# Altium footprint library PCB_Terminal_Block_Pcb.PcbLib: 27 footprints (part 1 of 2)
Each footprint in its own frame and in the unit in brackets; x right, y up, seen from the top. Pads: shape width x height; smd on the part's side, far side on the other; paste and mask are expansions set on the pad; w line width, h text height; cw(c..) or ccw(c..) is an arc to the next point about the centre after c.
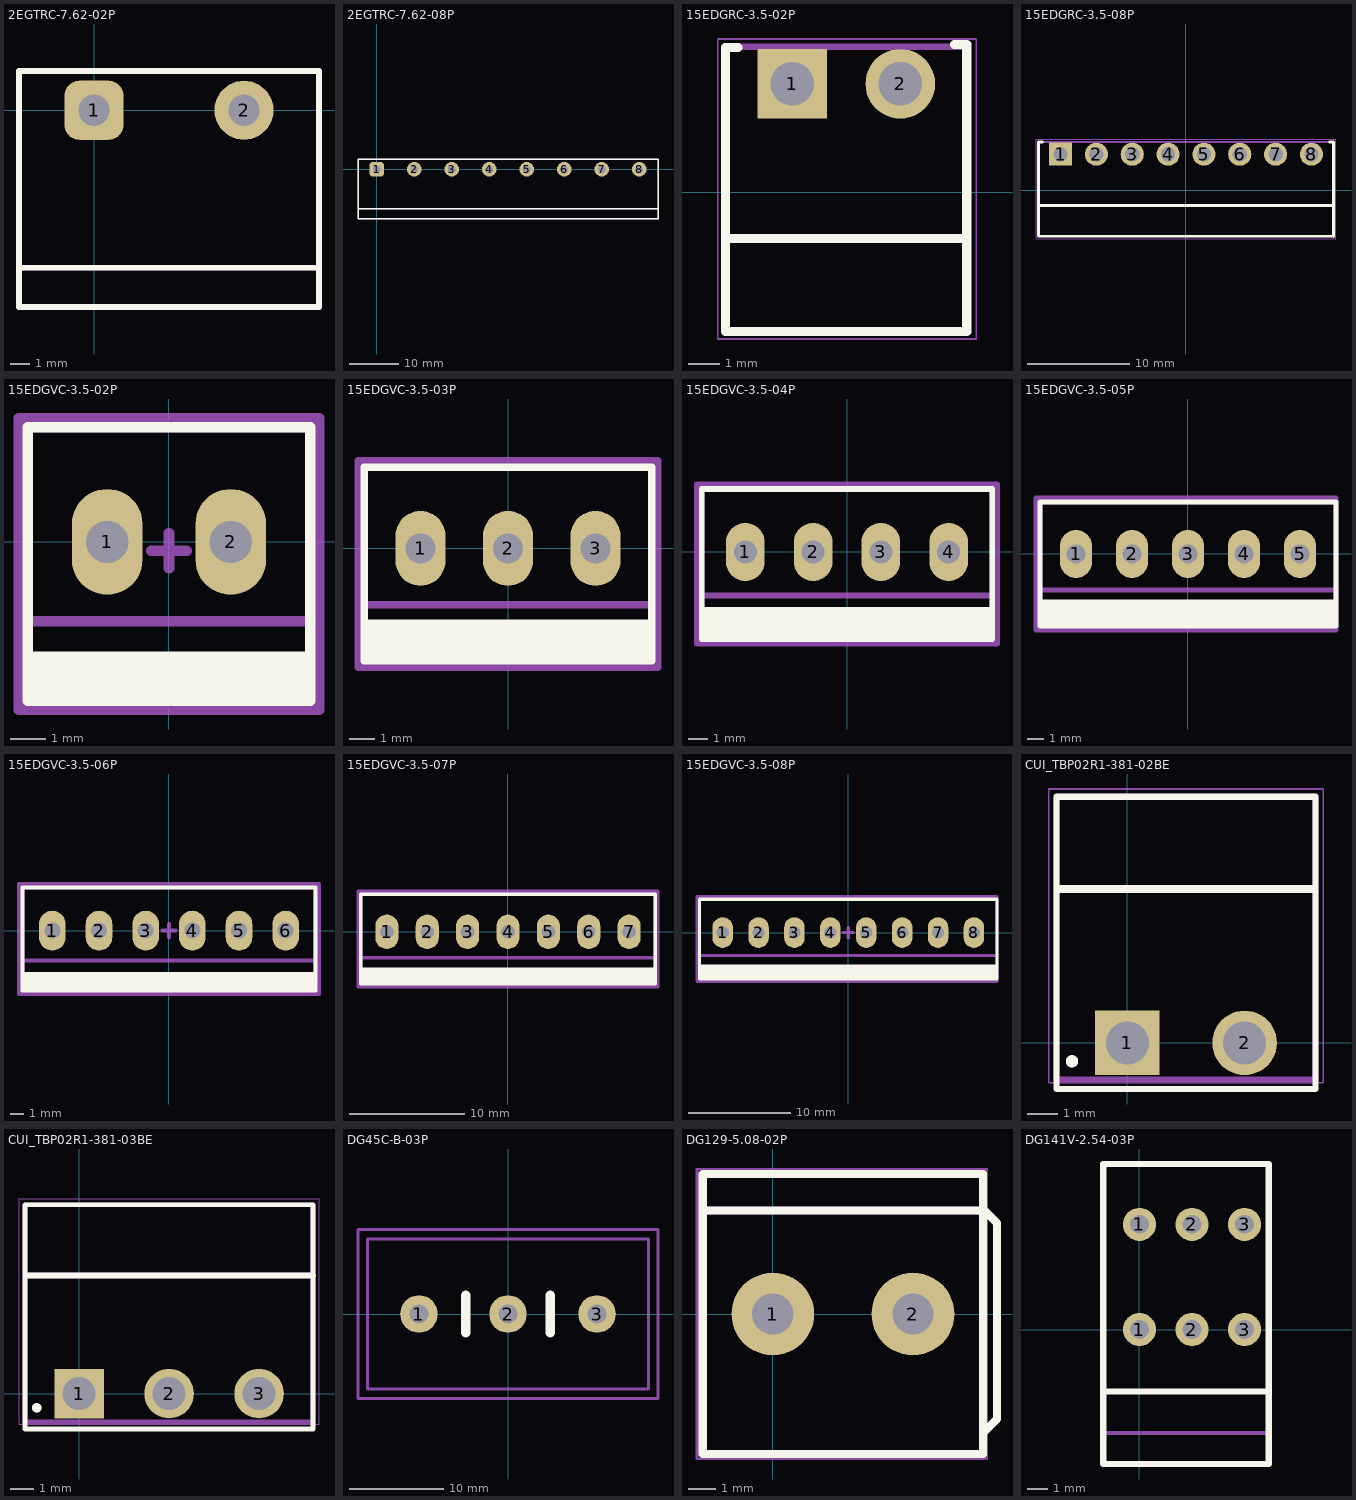
[diagram p0: the footprints below, top view; thin cyan lines are the x and y axes]

## 2EGTRC-7.62-02P [mm]
pads (2):
  rrect50% 3x3 hole 1.6: 1(0,0)
  round 3 hole 1.6: 2(7.62,0)
Top Overlay:
  lines w0.3: -3.81,-8 11.4,-8 ; -3.81,2 -3.81,-10 11.43,-10 11.43,2 -3.8,2
Mechanical 13:
  lines w0.3: -3.81,-8 11.4,-8 ; -3.81,2 -3.81,-10 11.43,-10 11.43,2 -3.8,2
  text ".designator" at -2.677,-7.422 h1.5
3D body "7.62-2P_right_angle.stp": height 8.51, standoff -3.99, extent -3.82,-10 11.42,2

## 2EGTRC-7.62-08P [mm]
pads (8):
  rrect50% 3x3 hole 1.6: 1(0,0)
  round 3 hole 1.6: 2(7.62,0) 3(15.24,0) 4(22.86,0) 5(30.48,0) 6(38.1,0) 7(45.72,0) 8(53.34,0)
Top Overlay:
  lines w0.3: -3.81,-8 57.15,-8 ; -3.81,2 -3.81,-10 57.15,-10 57.15,2 -3.8,2
Mechanical 13:
  lines w0.3: -3.81,-8 57.15,-8 ; -3.81,2 -3.81,-10 57.15,-10 57.15,2 -3.8,2
  text ".designator" at -2.776,-7.321 h1.5
3D body "terminal_blocks_a-tb762-oq08ch.stp": height 8.51, standoff -3.99, extent -3.756,-9.968 57.204,2.032

## 15EDGRC-3.5-02P [mm]
pads (2):
  rect 2.25x2.25 hole 1.4: 1(-12.25,3.5)
  round 2.25 hole 1.4: 2(-8.75,3.5)
Top Overlay:
  lines w0.3: -14.4,-1.5 -6.6,-1.5 ; -14,4.675 -14.4,4.675 -14.4,-4.5 -6.6,-4.507 ; -7,4.775 -6.6,4.775 -6.6,-4.425
Mechanical 13:
  lines w0.2: -14.45,-4.5 -6.6,-4.5 -6.6,4.7 -14.45,4.7 -14.45,-4.5
  text ".designator" at -13.817,-4.124 h1.5
Mechanical 15:
  lines w0.05: -14.65,-4.75 -14.65,4.95 -6.3,4.95 -6.3,-4.75 -14.65,-4.75
3D body "15EDGRC-3_5-02P.step": height 7.2, standoff -3.4, extent -14.4,-4.5 -6.6,4.7

## 15EDGRC-3.5-08P [mm]
pads (8):
  rect 2.25x2.25 hole 1.4: 1(-12.25,3.5)
  round 2.25 hole 1.4: 2(-8.75,3.5) 3(-5.25,3.5) 4(-1.75,3.5) 5(1.75,3.5) 6(5.25,3.5) 7(8.75,3.5) 8(12.25,3.5)
Top Overlay:
  lines w0.3: -14.4,-1.5 14.4,-1.5 ; -14,4.675 -14.4,4.675 -14.4,-4.5 14.4,-4.525 14.4,4.675 14,4.675
Mechanical 13:
  lines w0.2: -14.45,-4.5 -14.45,4.7 14.35,4.7 14.35,-4.5 -14.45,-4.5
  text ".designator" at -14.027,-4.322 h1.5
Mechanical 15:
  lines w0.05: -14.65,-4.75 14.65,-4.75 14.65,4.95 -14.65,4.95 -14.65,-4.75
3D body "15EDGRC-3.5-08P-14-00A.stp": height 7, standoff -3.4, extent -14.4,-4.5 14.4,4.7

## 15EDGVC-3.5-02P [mm]
pads (2):
  oval 2x3 hole 1.2 unplated: 1(-1.75,0) 2(1.75,0)
Top Overlay:
  rectangle: -4,-4.5 4,-3.25
  lines w0.3: -4,-3.25 4,-3.25 ; -4,-4.5 4,-4.5 4,0 4,3.25 1.5,3.25 -4,3.25 -4,0 -4,-4.5
Mechanical 13:
  lines w0.3: -4,-2.25 4,-2.25 ; -4,-4.5 4,-4.5 4,0 4,3.25 1.5,3.25 -4,3.25 -4,0 -4,-4.5
Mechanical 15:
  lines w0.3: -0.5,-0.25 0.5,-0.25 ; 0,-0.75 0,0.25 ; -4.25,-4.75 -4.25,3.5 4.25,3.5 4.25,-4.75 -4.25,-4.75
3D body "15EDGVC-3.5-02P-14-00A(H).stp": height 9.21, standoff -3.39, extent -3.9,-4.24 3.9,3

## 15EDGVC-3.5-03P [mm]
pads (3):
  oval 2x3 hole 1.2 unplated: 1(-3.5,0) 2(0,0) 3(3.5,0)
Top Overlay:
  rectangle: -5.75,-4.5 5.75,-3
  lines w0.3: -5.75,-3 5.75,-3 ; -5.75,-4.5 2.25,-4.5 5.75,-4.5 5.75,3.25 2.25,3.25 -0.25,3.25 -5.75,3.25 -5.75,0 -5.75,-4.5
Mechanical 13:
  lines w0.3: -5.75,-2.25 2.25,-2.25 5.75,-2.25 ; -5.75,-4.5 2.25,-4.5 5.75,-4.5 5.75,3.25 2.25,3.25 -0.25,3.25 -5.75,3.25 -5.75,0 -5.75,-4.5
Mechanical 15:
  lines w0.3: -6,-4.75 -6,3.5 6,3.5 6,-4.75 -6,-4.75
3D body "15EDGVC-3.5-03P-14-00A(H).stp": height 9.21, standoff -3.39, extent -5.65,-4.25 5.65,2.99

## 15EDGVC-3.5-04P [mm]
pads (4):
  oval 2x3 hole 1.2 unplated: 1(-5.25,0) 2(-1.75,0) 3(1.75,0) 4(5.25,0)
Top Overlay:
  rectangle: -7.5,-4.5 7.5,-3
  lines w0.3: -7.5,-3 7.5,-3 ; -7.5,-4.5 0.5,-4.5 7.5,-4.5 7.5,3.25 0.5,3.25 -2,3.25 -7.5,3.25 -7.5,0 -7.5,-4.5
Mechanical 13:
  lines w0.3: -7.5,-2.25 0.5,-2.25 7.5,-2.25 ; -7.5,-4.5 0.5,-4.5 7.5,-4.5 7.5,3.25 0.5,3.25 -2,3.25 -7.5,3.25 -7.5,0 -7.5,-4.5
Mechanical 15:
  lines w0.3: -7.75,-4.75 -7.75,3.5 7.75,3.5 7.75,-4.75 -7.75,-4.75
3D body "15EDGVC-3.5-04P-14-00A(H).stp": height 9.21, standoff -3.39, extent -7.4,-4.24 7.4,3

## 15EDGVC-3.5-05P [mm]
pads (5):
  oval 2x3 hole 1.2 unplated: 1(-7,0) 2(-3.5,0) 3(0,0) 4(3.5,0) 5(7,0)
Top Overlay:
  rectangle: -9.25,-4.5 9.25,-3
  lines w0.3: -9.25,-3 9.25,-3 ; -9.25,-4.5 -9.25,0 -9.25,3.25 -3.75,3.25 -1.25,3.25 9.25,3.25 9.25,-4.5 -1.25,-4.5 -9.25,-4.5
Mechanical 13:
  lines w0.3: -9.25,-2.25 -1.25,-2.25 9.25,-2.25 ; -9.25,-4.5 -9.25,0 -9.25,3.25 -3.75,3.25 -1.25,3.25 9.25,3.25 9.25,-4.5 -1.25,-4.5 -9.25,-4.5
Mechanical 15:
  lines w0.3: -0.5,0 0.5,0 ; 0,-0.5 0,0.5 ; -9.5,-4.75 9.25,-4.75 9.25,3.5 -9.5,3.5 -9.5,-4.75
3D body "15EDGVC-3.5-05P-14-00A(H).stp": height 9.21, standoff -3.39, extent -9.15,-4.25 9.15,2.99

## 15EDGVC-3.5-06P [mm]
pads (6):
  oval 2x3 hole 1.2 unplated: 1(-8.75,0) 2(-5.25,0) 3(-1.75,0) 4(1.75,0) 5(5.25,0) 6(8.75,0)
Top Overlay:
  rectangle: -11,-4.5 11,-3.25
  lines w0.3: -11,-3.25 11,-3.25 ; -11,-4.5 -11,0 -11,3.25 -5.5,3.25 -3,3.25 11,3.25 11,-4.5 -3,-4.5 -11,-4.5
Mechanical 13:
  lines w0.3: -11,-2.25 -3,-2.25 11,-2.25 ; -11,-4.5 -11,0 -11,3.25 -5.5,3.25 -3,3.25 11,3.25 11,-4.5 -3,-4.5 -11,-4.5
Mechanical 15:
  lines w0.3: -0.5,0 0.5,0 ; 0,-0.5 0,0.5 ; -11.25,-4.75 11.25,-4.75 11.25,3.5 -11.25,3.5 -11.25,-4.75
3D body "15EDGVC-3.5-06P-14-00A(H).stp": height 9.21, standoff -3.39, extent -10.9,-4.24 10.9,3

## 15EDGVC-3.5-07P [mm]
pads (7):
  oval 2x3 hole 1.2 unplated: 1(-10.5,0) 2(-7,0) 3(-3.5,0) 4(0,0) 5(3.5,0) 6(7,0) 7(10.5,0)
Top Overlay:
  rectangle: -12.75,-4.5 12.75,-3.25
  lines w0.3: -12.75,-3.25 12.75,-3.25 ; -12.75,-4.5 -4.75,-4.5 12.75,-4.5 12.75,3.25 -4.75,3.25 -7.25,3.25 -12.75,3.25 -12.75,0 -12.75,-4.5
Mechanical 13:
  lines w0.3: -12.75,-2.25 -4.75,-2.25 12.75,-2.25 ; -12.75,-4.5 -4.75,-4.5 12.75,-4.5 12.75,3.25 -4.75,3.25 -7.25,3.25 -12.75,3.25 -12.75,0 -12.75,-4.5
Mechanical 15:
  lines w0.3: -0.5,0 0.5,0 ; 0,-0.5 0,0.5 ; -13,-4.75 -13,3.5 13,3.5 13,-4.75 -13,-4.75
3D body "15EDGVC-3.5-07P-14-00A(H).stp": height 9.21, standoff -3.39, extent -12.65,-4.24 12.65,3

## 15EDGVC-3.5-08P [mm]
pads (8):
  oval 2x3 hole 1.2 unplated: 1(-12.25,0) 2(-8.75,0) 3(-5.25,0) 4(-1.75,0) 5(1.75,0) 6(5.25,0) 7(8.75,0) 8(12.25,0)
Top Overlay:
  rectangle: -14.5,-4.5 14.5,-3.25
  lines w0.3: -14.5,-3.25 14.5,-3.25 ; -14.5,-4.5 -6.5,-4.5 14.5,-4.5 14.5,3.25 -6.5,3.25 -9,3.25 -14.5,3.25 -14.5,0 -14.5,-4.5
Mechanical 13:
  lines w0.3: -14.5,-2.25 -6.5,-2.25 14.5,-2.25 ; -14.5,-4.5 -6.5,-4.5 14.5,-4.5 14.5,3.25 -6.5,3.25 -9,3.25 -14.5,3.25 -14.5,0 -14.5,-4.5
Mechanical 15:
  lines w0.3: -0.5,0 0.5,0 ; 0,-0.5 0,0.5 ; -14.75,-4.75 -14.75,3.5 14.5,3.5 14.5,-4.75 -14.75,-4.75
3D body "15EDGVC-3.5-08P-14-00A(H).stp": height 9.21, standoff -3.39, extent -14.4,-4.24 14.4,3

## CUI_TBP02R1-381-02BE [mm]
pads (2):
  rect 2.1x2.1 hole 1.4: 1(0,0)
  round 2.1 hole 1.4: 2(3.81,0)
Top Overlay:
  circle w0.2: c-1.8,-0.6 r0.1
  lines w0.2: -2.3,-1.5 6.11,-1.5 6.11,8 -2.3,8 -2.3,-1.5
  lines w0.25: -2.2,5 6,5
Mechanical 13:
  circle w0.2: c-1.8,-0.6 r0.1
  lines w0.2: -2.3,-1.2 -2.3,8 6.11,8 6.11,-1.2 -2.3,-1.2
  lines w0.25: -2.2,5 6,5
Mechanical 15:
  lines w0.05: -2.55,-1.3 6.36,-1.3 6.36,8.25 -2.55,8.25 -2.55,-1.3
3D body "CUI_DEVICES_TBP02R1-381-02BE.step": height 7.23, standoff -3.47, extent -2.302,-1.2 6.112,8

## CUI_TBP02R1-381-03BE [mm]
pads (3):
  rect 2.1x2.1 hole 1.4: 1(0,0)
  round 2.1 hole 1.4: 2(3.81,0) 3(7.62,0)
Top Overlay:
  circle w0.2: c-1.8,-0.6 r0.1
  lines w0.2: -2.3,-1.5 9.906,-1.5 9.906,8 -2.3,8 -2.3,-1.5
  lines w0.25: -2.2,5 9.906,5
Mechanical 13:
  circle w0.2: c-1.8,-0.6 r0.1
  lines w0.2: -2.3,-1.2 -2.3,8 9.906,8 9.906,-1.2 -2.3,-1.2
  lines w0.25: -2.2,5 9.906,5
Mechanical 15:
  lines w0.05: -2.55,-1.3 10.16,-1.3 10.16,8.25 -2.55,8.25 -2.55,-1.3
3D body "CUI_DEVICES_TBP02R1-381-03BE.step": height 7.23, standoff -3.47, extent -2.309,-1.2 9.915,8

## DG45C-B-03P [mm]
pads (3):
  round 4 hole 2: 1(-9.5,0) 2(0,0) 3(9.5,0)
Top Overlay:
  lines w1: -4.5,-2 -4.5,2 ; 4.5,-2 4.5,2
Mechanical 13:
  lines w0.3: -15,-8 -15,0 -15,8 15,8 15,-8 -15,-8
  text "'.Designator'" at -13.246,3.754 h1.5
Mechanical 15:
  lines w0.3: -16,-9 16,-9 16,9 -16,9 -16,-9
3D body "DG45C-B-03P-13.stp": height 18.4, standoff -5.2, extent -15.2,-8.15 15.2,8.15

## DG129-5.08-02P [mm]
pads (2):
  round 3 hole 1.5: 1(0,0) 2(5.08,0)
Top Overlay:
  lines w0.3: -2.54,3.75 -2.5,3.75 7.5,3.75 ; 7.62,-4.318 8.128,-3.81 8.128,3.302 7.62,3.81 7.62,4.064 ; -2.54,-5.08 -2.54,5.08 7.62,5.08 7.62,-5.08 -2.54,-5.08
Mechanical 13:
  lines w0.3: -2.54,3.75 -2.5,3.75 7.5,3.75 ; -2.54,-5.08 -2.54,5.08 7.62,5.08 7.62,-5.08 -2.54,-5.08
  text ".designator" at -2.027,-4.572 h1.5
Mechanical 15:
  lines w0.1: -2.75,-5.25 7.75,-5.25 7.75,5.25 -2.75,5.25 -2.75,-5.25
3D body "DG129-5_0-2.step": height 19.01, standoff -3.94, extent -2.5,-5 8,5

## DG141V-2.54-03P [mm]
pads (6):
  round 1.6 hole 0.9: 1(0,0) 1(0,5.08) 2(2.54,0) 2(2.54,5.08) 3(5.08,0) 3(5.08,5.08)
Top Overlay:
  lines w0.3: -1.75,-3 6.25,-3 ; -1.75,-6.5 -1.75,8 6.25,8 6.25,-6.5 -1.75,-6.5
Mechanical 13:
  lines w0.2: -1.75,-5 -1.75,8 6.25,8 6.25,-5 -1.75,-5
Mechanical 15:
  lines w0.2: -1.75,-5 -1.75,8 6.25,8 6.25,-5 -1.75,-5
3D body "DG141V.step": height 13.61, standoff -3.49, extent 3.44,-4.7 5.98,7.9
3D body "DG141V.step": height 13.61, standoff -3.49, extent 0.9,-4.7 3.44,7.9
3D body "DG141V.step": height 13.61, standoff -3.49, extent -1.64,-4.7 0.9,7.9